# EAGLE library part 30POS-*MM-? (library con-wurth-board-header)
Wurth Elektronik WR-BHD Male Box Headers
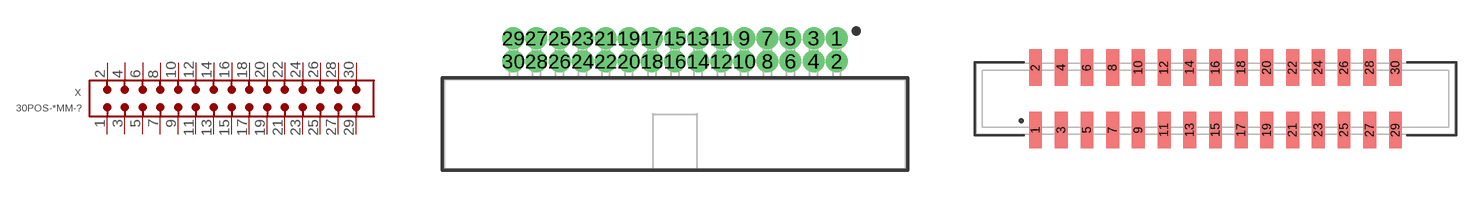
[diagram p13: symbol with the pads of 62703021721; footprints 62703021721, 62533020621]

Designator prefix X

## 30POS-1.27MM-62703021721 (CONTACT-RESISTANCE: 20mOhm; DATASHEET-URL: https://www.we-online.com/redexpert/spec/62703021721?ae; GENDER: Male; IR: 1A; LENGTH: 25.4mm; MOUNT: THT; PART-NUMBER: 62703021721; PINS: 30; PITCH: 1.27 mm; TYPE: Angled; VALUE: 62703021721; WORKING-VOLTAGE: 50V(AC))  [62703021721]
1  1  pas
2  2  pas
3  3  pas
4  4  pas
5  5  pas
6  6  pas
7  7  pas
8  8  pas
9  9  pas
10  10  pas
11  11  pas
12  12  pas
13  13  pas
14  14  pas
15  15  pas
16  16  pas
17  17  pas
18  18  pas
19  19  pas
20  20  pas
21  21  pas
22  22  pas
23  23  pas
24  24  pas
25  25  pas
26  26  pas
27  27  pas
28  28  pas
29  29  pas
30  30  pas

## 30POS-2.00MM-62533020621 (CONTACT-RESISTANCE: 20mOhm; DATASHEET-URL: https://www.we-online.com/redexpert/spec/62533020621?ae; GENDER: Male; IR: 2A; LENGTH: 37.25mm; MOUNT: SMT; PACKAGING: Tape and Reel with Cap; PART-NUMBER: 62533020621; PINS: 30; PITCH: 2.00 mm; TYPE: Straight; VALUE: 62533020621; WORKING-VOLTAGE: 250V(AC))  [62533020621]
Pads as for 62703021721

## 30POS-2.00MM-62503021621 (CONTACT-RESISTANCE: 20mOhm; DATASHEET-URL: https://www.we-online.com/redexpert/spec/62503021621?ae; GENDER: Male; IR: 2A; LENGTH: 37.2mm; MOUNT: THT; PACKAGING: Tray; PART-NUMBER: 62503021621; PINS: 30; PITCH: 2.00 mm; TYPE: Straight; VALUE: 62503021621; WORKING-VOLTAGE: 250V(AC))  [62503021621]
Pads as for 62703021721

## 30POS-1.27MM-62733020621 (CONTACT-RESISTANCE: 20mOhm; DATASHEET-URL: https://www.we-online.com/redexpert/spec/62733020621?ae; GENDER: Male; IR: 1A; LENGTH: 25.4mm; MOUNT: SMT; PART-NUMBER: 62733020621; PINS: 30; PITCH: 1.27 mm; TYPE: Straight; VALUE: 62733020621; WORKING-VOLTAGE: 50V(AC))  [62733020621]
Pads as for 62703021721

## 30POS-1.27MM-62703021621 (CONTACT-RESISTANCE: 20mOhm; DATASHEET-URL: https://www.we-online.com/redexpert/spec/62703021621?ae; GENDER: Male; IR: 1A; LENGTH: 25.4mm; MOUNT: THT; PART-NUMBER: 62703021621; PINS: 30; PITCH: 1.27 mm; TYPE: Straight; VALUE: 62703021621; WORKING-VOLTAGE: 50V(AC))  [62703021621]
Pads as for 62703021721

## 30POS-1.27MM-62703020621 (CONTACT-RESISTANCE: 20mOhm; DATASHEET-URL: https://www.we-online.com/redexpert/spec/62703020621?ae; GENDER: Male; IR: 1A; LENGTH: 25.4mm; MOUNT: SMT; PART-NUMBER: 62703020621; PINS: 30; PITCH: 1.27 mm; TYPE: Straight; VALUE: 62703020621; WORKING-VOLTAGE: 50V(AC))  [62703020621]
Pads as for 62703021721

## 30POS-2.00MM-62503022323 (CONTACT-RESISTANCE: 20mOhm; DATASHEET-URL: https://www.we-online.com/redexpert/spec/62503022323?ae; GENDER: Transition; IR: 1A; LENGTH: 34.1mm; MOUNT: THT; PACKAGING: Tray; PART-NUMBER: 62503022323; PINS: 30; PITCH: 2.00 mm; TYPE: Straight; VALUE: 62503022323; WORKING-VOLTAGE: 250V(AC))  [62503022323]
Pads as for 62703021721

## Footprint 62703021721 (pad centres in mm)
WR-BHD 1,27mm Male THT Box Header Right angle, 30Pins
drill 0.7 pad 1.05: 1 8.89,4.72; 2 8.89,3.45; 3 7.62,4.72; 4 7.62,3.45; 5 6.35,4.72; 6 6.35,3.45; 7 5.08,4.72; 8 5.08,3.45; 9 3.81,4.72; 10 3.81,3.45; 11 2.54,4.72; 12 2.54,3.45; 13 1.27,4.72; 14 1.27,3.45; 15 0,4.72; 16 0,3.45; 17 -1.27,4.72; 18 -1.27,3.45; 19 -2.54,4.72; 20 -2.54,3.45; 21 -3.81,4.72; 22 -3.81,3.45; 23 -5.08,4.72; 24 -5.08,3.45; 25 -6.35,4.72; 26 -6.35,3.45; 27 -7.62,4.72; 28 -7.62,3.45; 29 -8.89,4.72; 30 -8.89,3.45

## Footprint 62533020621 (pad centres in mm)
WR-BHD 2.00 mm Male SMT Box Header,30 pins
smd 1 x 2.85: 1 -14,-2.425; 2 -14,2.425; 3 -12,-2.425; 4 -12,2.425; 5 -10,-2.425; 6 -10,2.425; 7 -8,-2.425; 8 -8,2.425; 9 -6,-2.425; 10 -6,2.425; 11 -4,-2.425; 12 -4,2.425; 13 -2,-2.425; 14 -2,2.425; 15 0,-2.425; 16 0,2.425; 17 2,-2.425; 18 2,2.425; 19 4,-2.425; 20 4,2.425; 21 6,-2.425; 22 6,2.425; 23 8,-2.425; 24 8,2.425; 25 10,-2.425; 26 10,2.425; 27 12,-2.425; 28 12,2.425; 29 14,-2.425; 30 14,2.425

## Footprint 62503021621 (pad centres in mm)
WR-BHD 2.00 mm Male Box Headerr, 30 pins
drill 0.8: 1 -14,-1; 2 -14,1; 3 -12,-1; 4 -12,1; 5 -10,-1; 6 -10,1; 7 -8,-1; 8 -8,1; 9 -6,-1; 10 -6,1; 11 -4,-1; 12 -4,1; 13 -2,-1; 14 -2,1; 15 0,-1; 16 0,1; 17 2,-1; 18 2,1; 19 4,-1; 20 4,1; 21 6,-1; 22 6,1; 23 8,-1; 24 8,1; 25 10,-1; 26 10,1; 27 12,-1; 28 12,1; 29 14,-1; 30 14,1

## Footprint 62733020621 (pad centres in mm)
WR-BHD 1.27 mm Male SMT Box Header Pitch: 1.27mm, 30pins, SMT
smd 0.65 x 2.76: 1 -8.89,-2.02; 2 -8.89,2.02; 3 -7.62,-2.02; 4 -7.62,2.02; 5 -6.35,-2.02; 6 -6.35,2.02; 7 -5.08,-2.02; 8 -5.08,2.02; 9 -3.81,-2.02; 10 -3.81,2.02; 11 -2.54,-2.02; 12 -2.54,2.02; 13 -1.27,-2.02; 14 -1.27,2.02; 15 0,-2.02; 16 0,2.02; 17 1.27,-2.02; 18 1.27,2.02; 19 2.54,-2.02; 20 2.54,2.02; 21 3.81,-2.02; 22 3.81,2.02; 23 5.08,-2.02; 24 5.08,2.02; 25 6.35,-2.02; 26 6.35,2.02; 27 7.62,-2.02; 28 7.62,2.02; 29 8.89,-2.02; 30 8.89,2.02

## Footprint 62703021621 (pad centres in mm)
WR-BHD 1.27mm Male THT Box Header Straight, 30Pins
drill 0.7 pad 1.05: 1 -8.89,-0.635; 2 -8.89,0.635; 3 -7.62,-0.635; 4 -7.62,0.635; 5 -6.35,-0.635; 6 -6.35,0.635; 7 -5.08,-0.635; 8 -5.08,0.635; 9 -3.81,-0.635; 10 -3.81,0.635; 11 -2.54,-0.635; 12 -2.54,0.635; 13 -1.27,-0.635; 14 -1.27,0.635; 15 0,-0.635; 16 0,0.635; 17 1.27,-0.635; 18 1.27,0.635; 19 2.54,-0.635; 20 2.54,0.635; 21 3.81,-0.635; 22 3.81,0.635; 23 5.08,-0.635; 24 5.08,0.635; 25 6.35,-0.635; 26 6.35,0.635; 27 7.62,-0.635; 28 7.62,0.635; 29 8.89,-0.635; 30 8.89,0.635

## Footprint 62703020621 (pad centres in mm)
WR-BHD 1.27 mm Male SMT Box Header Pitch: 1.27mm, 30pins, SMT
smd 0.65 x 2.76: 1 -8.89,-2.02; 2 -8.89,2.02; 3 -7.62,-2.02; 4 -7.62,2.02; 5 -6.35,-2.02; 6 -6.35,2.02; 7 -5.08,-2.02; 8 -5.08,2.02; 9 -3.81,-2.02; 10 -3.81,2.02; 11 -2.54,-2.02; 12 -2.54,2.02; 13 -1.27,-2.02; 14 -1.27,2.02; 15 0,-2.02; 16 0,2.02; 17 1.27,-2.02; 18 1.27,2.02; 19 2.54,-2.02; 20 2.54,2.02; 21 3.81,-2.02; 22 3.81,2.02; 23 5.08,-2.02; 24 5.08,2.02; 25 6.35,-2.02; 26 6.35,2.02; 27 7.62,-2.02; 28 7.62,2.02; 29 8.89,-2.02; 30 8.89,2.02

## Footprint 62503022323 (pad centres in mm)
WR-BHD 2.00 mm Board to Cable Transition Connector,30 pins
drill 1: 1 -14,-1; 2 -14,1; 3 -12,-1; 4 -12,1; 5 -10,-1; 6 -10,1; 7 -8,-1; 8 -8,1; 9 -6,-1; 10 -6,1; 11 -4,-1; 12 -4,1; 13 -2,-1; 14 -2,1; 15 0,-1; 16 0,1; 17 2,-1; 18 2,1; 19 4,-1; 20 4,1; 21 6,-1; 22 6,1; 23 8,-1; 24 8,1; 25 10,-1; 26 10,1; 27 12,-1; 28 12,1; 29 14,-1; 30 14,1